# Altium footprint library Wurth_Electronics_744773122_0.PcbLib: 1 footprints
Each footprint in its own frame and in the unit in brackets; x right, y up, seen from the top. Pads: shape width x height; smd on the part's side, far side on the other; paste and mask are expansions set on the pad; w line width, h text height; cw(c..) or ccw(c..) is an arc to the next point about the centre after c.
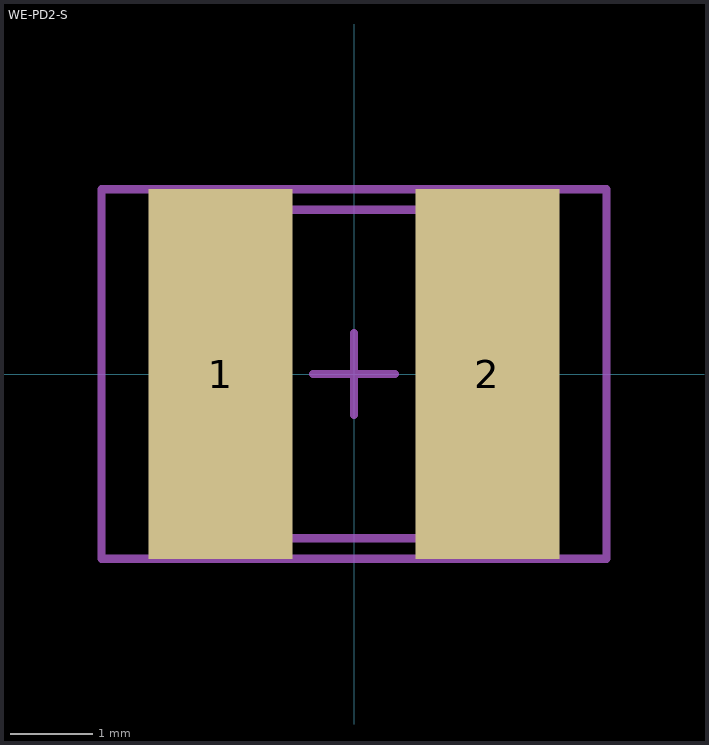
[diagram p0: the footprint, top view; thin cyan lines are the x and y axes]

## WE-PD2-S [mm] "SMD Inductor, 2-Leads, Body 4.5 x 4.0 mm"
height 3.5
pads (2):
  rect 1.75x4.5 smd: 1(-1.625,0) 2(1.625,0)
Mechanical 13:
  lines w0.1: -2.25,-2 2.25,-2 2.25,2 -2.25,2 -2.25,-2
Mechanical 15:
  lines w0.1: -0.5,0 0.5,0 ; 0,-0.5 0,0.5 ; -3.075,-2.25 3.075,-2.25 3.075,2.25 -3.075,2.25 -3.075,-2.25
3D body: height 3.17, standoff -0.01, extent -2.231,-2 2.231,2